# Altium integrated library Silicon Labs Clocks and Oscillators.IntLib: 678 symbols (part 41 of 45)
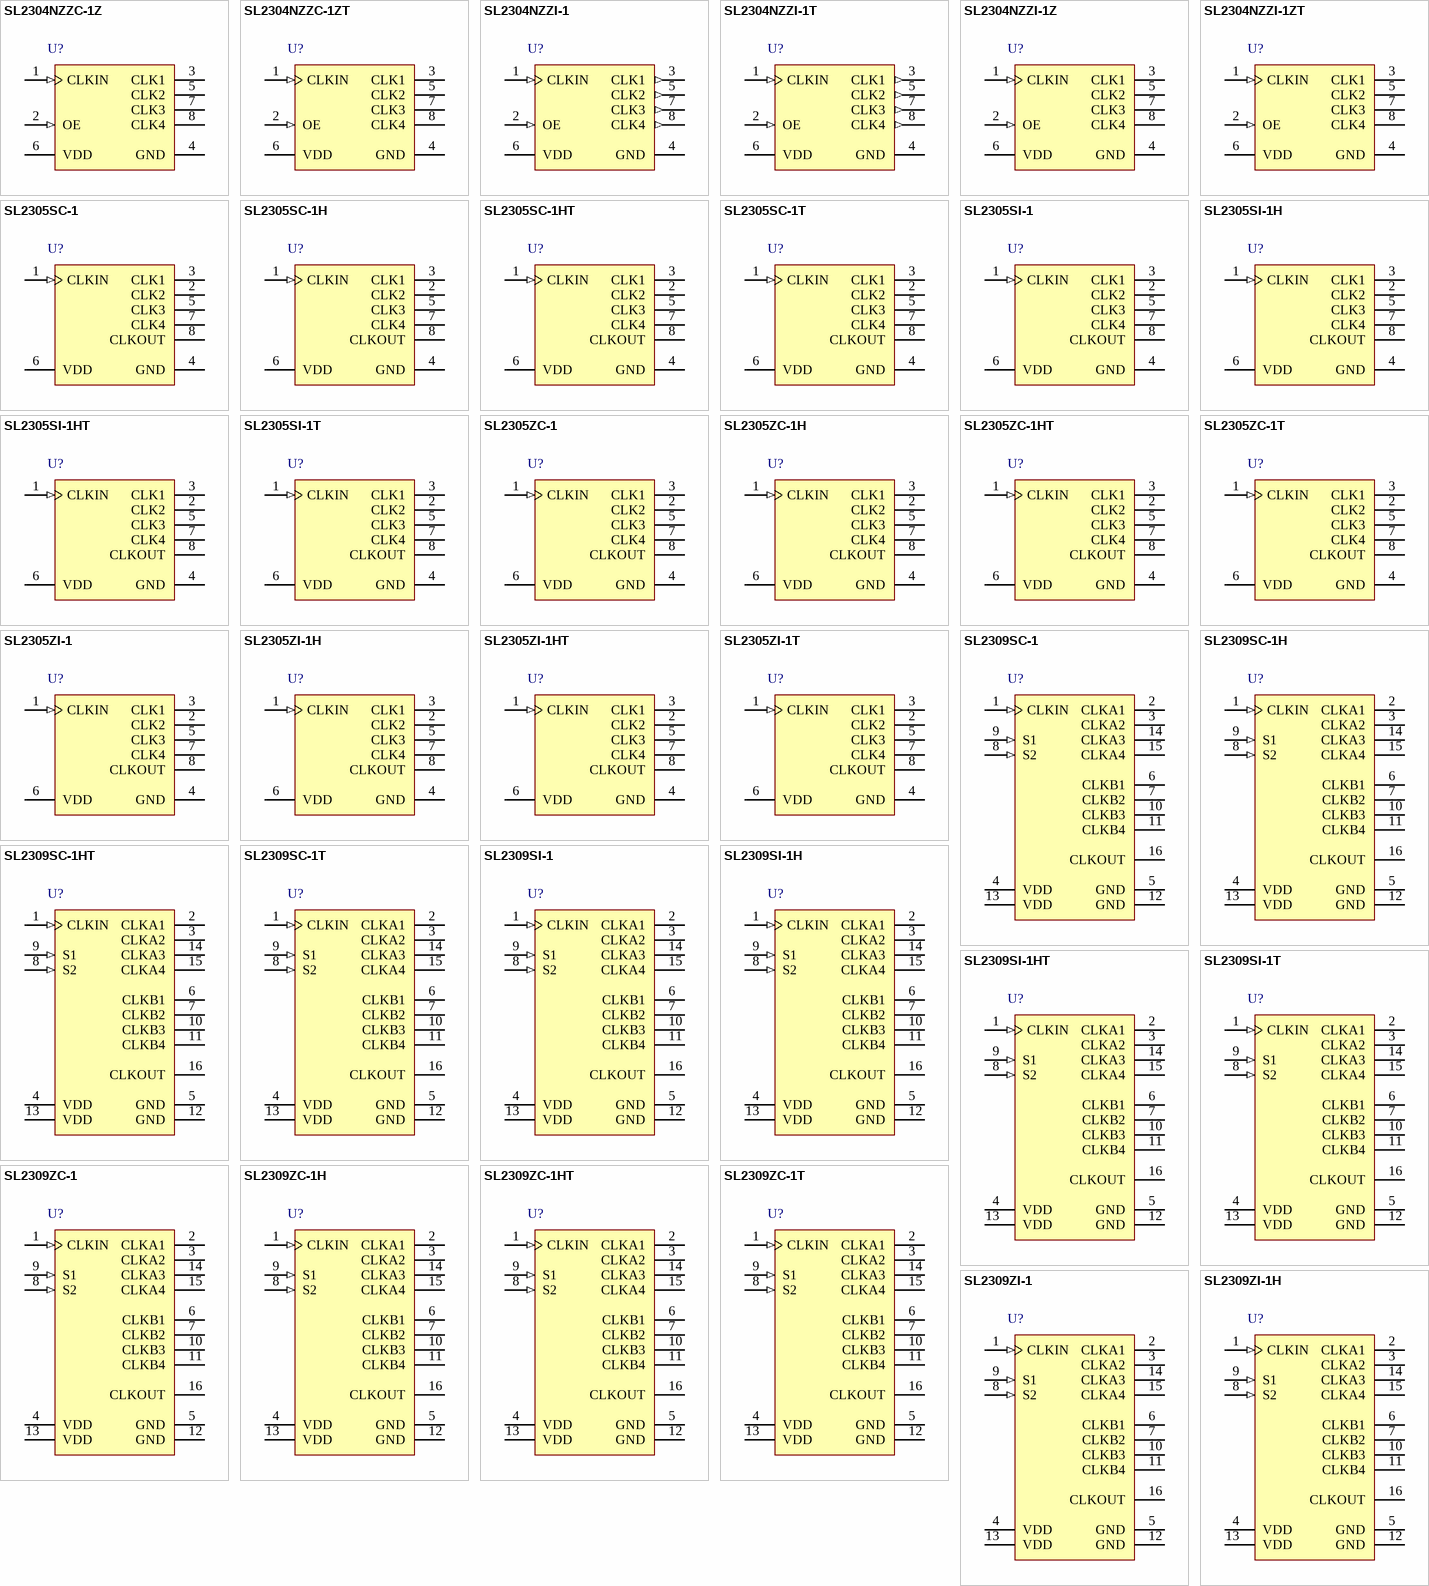
[diagram p84: symbols SL2304NZZC-1Z to SL2309ZI-1H]

## SL2305ZC-1T
designator U?
Low Jitter and Skew Zero Delay Buffer (ZDB), 10 to 140 MHz, 0 to 70 degC, 8-pin SOP, Tape and Reel; Manufacturer: Silicon Labs; PartNumber: SL2305ZC-1T; Output Format: LVCMOS; Sub-Family: Clock Buffers; DatasheetVersion: Rev. 2.1; PackageReference: TSSOP-8; PackageDescription: 8-Pin Thin Shrink Small-Outline Package, Body 4.4 x 3 mm, Pitch 0.65 mm; Supplier 1: Digi-Key; Supplier Part Number 1: SL2305ZC-1T-ND; Supplier 2: Mouser; Supplier Part Number 2: 634-SL2305ZC-1T; Frequency (MHz): 10 to 140; Packing: Tape and Reel; Mounting Technology: Surface Mount; ComponentLink1Description: Manufacturer URL; ComponentLink1URL: http://www.silabs.com/; ComponentLink2Description: Datasheet; ComponentLink2URL: http://www.silabs.com/Support%20Documents/TechnicalDocs/SL2305.pdf; ComponentLink3Description: Package Specification; ComponentLink3URL: http://www.silabs.com/Support%20Documents/TechnicalDocs/SL2305.pdf
footprint SLAB-TSSOP-8_A_N (SOP, 8-Leads, Body 4.5x3.1mm, Pitch 0.65mm, IPC Medium Density)
footprint SLAB-TSSOP-8_A_L (SOP, 8-Leads, Body 4.5x3.1mm, Pitch 0.65mm, IPC High Density)
footprint SLAB-TSSOP-8_A_M (SOP, 8-Leads, Body 4.5x3.1mm, Pitch 0.65mm, IPC Low Density)
pins: 1 CLKIN (in) "Reference Frequency Clock Input. Weak pull-down.", 2 CLK2 (hiz) "Buffered Clock Output Weak pull-down.", 3 CLK1 (hiz) "Buffered Clock Output. Weak pull-down.", 4 GND (power) "Power Ground.", 5 CLK3 (hiz) "Buffered Clock Output. Weak pull-down.", 6 VDD (power), 7 CLK4 (hiz) "Buffered Clock Output. Weak pull-down.", 8 CLKOUT (hiz) "Buffered Clock Output, Used for Internal Feedback to PLL Input. Weak pull-down."

## SL2305ZI-1
designator U?
Low Jitter and Skew Zero Delay Buffer (ZDB), 10 to 140 MHz, -40 to 85 degC, 8-pin SOP, Tube; Manufacturer: Silicon Labs; PartNumber: SL2305ZI-1; Output Format: LVCMOS; Sub-Family: Clock Buffers; DatasheetVersion: Rev. 2.1; PackageReference: TSSOP-8; PackageDescription: 8-Pin Thin Shrink Small-Outline Package, Body 4.4 x 3 mm, Pitch 0.65 mm; Supplier 1: Digi-Key; Supplier Part Number 1: SL2305ZI-1-ND; Supplier 2: Mouser; Supplier Part Number 2: 634-SL2305ZI-1; Frequency (MHz): 10 to 140; Packing: Tube; Mounting Technology: Surface Mount; ComponentLink1Description: Manufacturer URL; ComponentLink1URL: http://www.silabs.com/; ComponentLink2Description: Datasheet; ComponentLink2URL: http://www.silabs.com/Support%20Documents/TechnicalDocs/SL2305.pdf; ComponentLink3Description: Package Specification; ComponentLink3URL: http://www.silabs.com/Support%20Documents/TechnicalDocs/SL2305.pdf
footprint SLAB-TSSOP-8_A_N (SOP, 8-Leads, Body 4.5x3.1mm, Pitch 0.65mm, IPC Medium Density)
footprint SLAB-TSSOP-8_A_L (SOP, 8-Leads, Body 4.5x3.1mm, Pitch 0.65mm, IPC High Density)
footprint SLAB-TSSOP-8_A_M (SOP, 8-Leads, Body 4.5x3.1mm, Pitch 0.65mm, IPC Low Density)
pins: 1 CLKIN (in) "Reference Frequency Clock Input. Weak pull-down.", 2 CLK2 (hiz) "Buffered Clock Output Weak pull-down.", 3 CLK1 (hiz) "Buffered Clock Output. Weak pull-down.", 4 GND (power) "Power Ground.", 5 CLK3 (hiz) "Buffered Clock Output. Weak pull-down.", 6 VDD (power), 7 CLK4 (hiz) "Buffered Clock Output. Weak pull-down.", 8 CLKOUT (hiz) "Buffered Clock Output, Used for Internal Feedback to PLL Input. Weak pull-down."

## SL2305ZI-1H
designator U?
Low Jitter and Skew Zero Delay Buffer (ZDB), 10 to 140 MHz, -40 to 85 degC, 8-pin SOP, Tube; Manufacturer: Silicon Labs; PartNumber: SL2305ZI-1H; Output Format: LVCMOS; Sub-Family: Clock Buffers; DatasheetVersion: Rev. 2.1; PackageReference: TSSOP-8; PackageDescription: 8-Pin Thin Shrink Small-Outline Package, Body 4.4 x 3 mm, Pitch 0.65 mm; Supplier 1: Digi-Key; Supplier Part Number 1: SL2305ZI-1H-ND; Supplier 2: Mouser; Supplier Part Number 2: 634-SL2305ZI-1H; Frequency (MHz): 10 to 140; Packing: Tube; Mounting Technology: Surface Mount; ComponentLink1Description: Manufacturer URL; ComponentLink1URL: http://www.silabs.com/; ComponentLink2Description: Datasheet; ComponentLink2URL: http://www.silabs.com/Support%20Documents/TechnicalDocs/SL2305.pdf; ComponentLink3Description: Package Specification; ComponentLink3URL: http://www.silabs.com/Support%20Documents/TechnicalDocs/SL2305.pdf
footprint SLAB-TSSOP-8_A_N (SOP, 8-Leads, Body 4.5x3.1mm, Pitch 0.65mm, IPC Medium Density)
footprint SLAB-TSSOP-8_A_L (SOP, 8-Leads, Body 4.5x3.1mm, Pitch 0.65mm, IPC High Density)
footprint SLAB-TSSOP-8_A_M (SOP, 8-Leads, Body 4.5x3.1mm, Pitch 0.65mm, IPC Low Density)
pins: 1 CLKIN (in) "Reference Frequency Clock Input. Weak pull-down.", 2 CLK2 (hiz) "Buffered Clock Output Weak pull-down.", 3 CLK1 (hiz) "Buffered Clock Output. Weak pull-down.", 4 GND (power) "Power Ground.", 5 CLK3 (hiz) "Buffered Clock Output. Weak pull-down.", 6 VDD (power), 7 CLK4 (hiz) "Buffered Clock Output. Weak pull-down.", 8 CLKOUT (hiz) "Buffered Clock Output, Used for Internal Feedback to PLL Input. Weak pull-down."

## SL2305ZI-1HT
designator U?
Low Jitter and Skew Zero Delay Buffer (ZDB), 10 to 140 MHz, -40 to 85 degC, 8-pin SOP, Tape and Reel; Manufacturer: Silicon Labs; PartNumber: SL2305ZI-1HT; Output Format: LVCMOS; Sub-Family: Clock Buffers; DatasheetVersion: Rev. 2.1; PackageReference: TSSOP-8; PackageDescription: 8-Pin Thin Shrink Small-Outline Package, Body 4.4 x 3 mm, Pitch 0.65 mm; Supplier 1: Digi-Key; Supplier Part Number 1: SL2305ZI-1HT-ND; Supplier 2: Mouser; Supplier Part Number 2: 634-SL2305ZI-1HT; Frequency (MHz): 10 to 140; Packing: Tape and Reel; Mounting Technology: Surface Mount; ComponentLink1Description: Manufacturer URL; ComponentLink1URL: http://www.silabs.com/; ComponentLink2Description: Datasheet; ComponentLink2URL: http://www.silabs.com/Support%20Documents/TechnicalDocs/SL2305.pdf; ComponentLink3Description: Package Specification; ComponentLink3URL: http://www.silabs.com/Support%20Documents/TechnicalDocs/SL2305.pdf
footprint SLAB-TSSOP-8_A_N (SOP, 8-Leads, Body 4.5x3.1mm, Pitch 0.65mm, IPC Medium Density)
footprint SLAB-TSSOP-8_A_L (SOP, 8-Leads, Body 4.5x3.1mm, Pitch 0.65mm, IPC High Density)
footprint SLAB-TSSOP-8_A_M (SOP, 8-Leads, Body 4.5x3.1mm, Pitch 0.65mm, IPC Low Density)
pins: 1 CLKIN (in) "Reference Frequency Clock Input. Weak pull-down.", 2 CLK2 (hiz) "Buffered Clock Output Weak pull-down.", 3 CLK1 (hiz) "Buffered Clock Output. Weak pull-down.", 4 GND (power) "Power Ground.", 5 CLK3 (hiz) "Buffered Clock Output. Weak pull-down.", 6 VDD (power), 7 CLK4 (hiz) "Buffered Clock Output. Weak pull-down.", 8 CLKOUT (hiz) "Buffered Clock Output, Used for Internal Feedback to PLL Input. Weak pull-down."

## SL2305ZI-1T
designator U?
Low Jitter and Skew Zero Delay Buffer (ZDB), 10 to 140 MHz, -40 to 85 degC, 8-pin SOP, Tape and Reel; Manufacturer: Silicon Labs; PartNumber: SL2305ZI-1T; Output Format: LVCMOS; Sub-Family: Clock Buffers; DatasheetVersion: Rev. 2.1; PackageReference: TSSOP-8; PackageDescription: 8-Pin Thin Shrink Small-Outline Package, Body 4.4 x 3 mm, Pitch 0.65 mm; Supplier 1: Digi-Key; Supplier Part Number 1: SL2305ZI-1T-ND; Supplier 2: Mouser; Supplier Part Number 2: 634-SL2305ZI-1T; Frequency (MHz): 10 to 140; Packing: Tape and Reel; Mounting Technology: Surface Mount; ComponentLink1Description: Manufacturer URL; ComponentLink1URL: http://www.silabs.com/; ComponentLink2Description: Datasheet; ComponentLink2URL: http://www.silabs.com/Support%20Documents/TechnicalDocs/SL2305.pdf; ComponentLink3Description: Package Specification; ComponentLink3URL: http://www.silabs.com/Support%20Documents/TechnicalDocs/SL2305.pdf
footprint SLAB-TSSOP-8_A_N (SOP, 8-Leads, Body 4.5x3.1mm, Pitch 0.65mm, IPC Medium Density)
footprint SLAB-TSSOP-8_A_L (SOP, 8-Leads, Body 4.5x3.1mm, Pitch 0.65mm, IPC High Density)
footprint SLAB-TSSOP-8_A_M (SOP, 8-Leads, Body 4.5x3.1mm, Pitch 0.65mm, IPC Low Density)
pins: 1 CLKIN (in) "Reference Frequency Clock Input. Weak pull-down.", 2 CLK2 (hiz) "Buffered Clock Output Weak pull-down.", 3 CLK1 (hiz) "Buffered Clock Output. Weak pull-down.", 4 GND (power) "Power Ground.", 5 CLK3 (hiz) "Buffered Clock Output. Weak pull-down.", 6 VDD (power), 7 CLK4 (hiz) "Buffered Clock Output. Weak pull-down.", 8 CLKOUT (hiz) "Buffered Clock Output, Used for Internal Feedback to PLL Input. Weak pull-down."

## SL2309SC-1
designator U?
Low Jitter and Skew Zero Delay Buffer (ZDB), 10 to 140 MHz, 0 to 70 degC, 16-pin SOIC, Tube; Manufacturer: Silicon Labs; PartNumber: SL2309SC-1; Output Format: LVCMOS; Sub-Family: Clock Buffers; DatasheetVersion: Rev. 1.3; PackageReference: SOIC-16; PackageDescription: 16-Pin Small-Outline Integrated Circuit, Body 9.9 x 3.9 mm, Pitch 1.27 mm; Supplier 1: Digi-Key; Supplier Part Number 1: SL2309SC-1-ND; Supplier 2: Mouser; Supplier Part Number 2: 634-SL2309SC-1; Frequency (MHz): 10 to 140; Packing: Tube; Mounting Technology: Surface Mount; ComponentLink1Description: Manufacturer URL; ComponentLink1URL: http://www.silabs.com/; ComponentLink2Description: Datasheet; ComponentLink2URL: http://www.silabs.com/Support%20Documents/TechnicalDocs/SL2309.pdf; ComponentLink3Description: Package Specification; ComponentLink3URL: http://www.silabs.com/Support%20Documents/TechnicalDocs/SL2309.pdf
footprint SLAB-SOIC-16_N (SOIC, 16-Leads, Body 10x4mm, Pitch 1.27mm, IPC Medium Density)
footprint SLAB-SOIC-16_L (SOIC, 16-Leads, Body 10x4mm, Pitch 1.27mm, IPC High Density)
footprint SLAB-SOIC-16_M (SOIC, 16-Leads, Body 10x4mm, Pitch 1.27mm, IPC Low Density)
pins: 1 CLKIN (in) "Reference Frequency Clock Input. Weak pull-down (250kohm).", 2 CLKA1 (hiz) "Buffered Clock Output, Bank A. Weak pull-down (250kohm).", 3 CLKA2 (hiz) "Buffered Clock Output, Bank A. Weak pull-down (250kohm).", 4 VDD (power), 5 GND (power) "Power Ground.", 6 CLKB1 (hiz) "Buffered Clock Output, Bank B. Weak pull-down (250kohm).", 7 CLKB2 (hiz) "Buffered Clock Output, Bank B. Weak pull-down (250kohm).", 8 S2 (in) "Select Input, select pin S2. Weak pull-up (250kohm).", 9 S1 (in) "Select Input, select pin S1. Weak pull-up (250kohm).", 10 CLKB3 (hiz) "Buffered Clock Output, Bank B. Weak pull-down (250kohm).", 11 CLKB4 (hiz) "Buffered Clock Output, Bank B. Weak pull-down (250kohm).", 12 GND (power) "Power Ground.", 13 VDD (power), 14 CLKA3 (hiz) "Buffered Clock Output, Bank A. Weak pull-down (250kohm).", 15 CLKA4 (hiz) "Buffered Clock Output, Bank A. Weak pull-down (250kohm).", 16 CLKOUT (hiz) "Buffered Clock Output, PLL Internal Feedback Output. Weak pull-down (250kohm)."

## SL2309SC-1H
designator U?
Low Jitter and Skew Zero Delay Buffer (ZDB), 10 to 140 MHz, 0 to 70 degC, 16-pin SOIC, Tube; Manufacturer: Silicon Labs; PartNumber: SL2309SC-1H; Output Format: LVCMOS; Sub-Family: Clock Buffers; DatasheetVersion: Rev. 1.3; PackageReference: SOIC-16; PackageDescription: 16-Pin Small-Outline Integrated Circuit, Body 9.9 x 3.9 mm, Pitch 1.27 mm; Supplier 1: Digi-Key; Supplier Part Number 1: SL2309SC-1H-ND; Supplier 2: Mouser; Supplier Part Number 2: 634-SL2309SC-1H; Frequency (MHz): 10 to 140; Packing: Tube; Mounting Technology: Surface Mount; ComponentLink1Description: Manufacturer URL; ComponentLink1URL: http://www.silabs.com/; ComponentLink2Description: Datasheet; ComponentLink2URL: http://www.silabs.com/Support%20Documents/TechnicalDocs/SL2309.pdf; ComponentLink3Description: Package Specification; ComponentLink3URL: http://www.silabs.com/Support%20Documents/TechnicalDocs/SL2309.pdf
footprint SLAB-SOIC-16_N (SOIC, 16-Leads, Body 10x4mm, Pitch 1.27mm, IPC Medium Density)
footprint SLAB-SOIC-16_L (SOIC, 16-Leads, Body 10x4mm, Pitch 1.27mm, IPC High Density)
footprint SLAB-SOIC-16_M (SOIC, 16-Leads, Body 10x4mm, Pitch 1.27mm, IPC Low Density)
pins: 1 CLKIN (in) "Reference Frequency Clock Input. Weak pull-down (250kohm).", 2 CLKA1 (hiz) "Buffered Clock Output, Bank A. Weak pull-down (250kohm).", 3 CLKA2 (hiz) "Buffered Clock Output, Bank A. Weak pull-down (250kohm).", 4 VDD (power), 5 GND (power) "Power Ground.", 6 CLKB1 (hiz) "Buffered Clock Output, Bank B. Weak pull-down (250kohm).", 7 CLKB2 (hiz) "Buffered Clock Output, Bank B. Weak pull-down (250kohm).", 8 S2 (in) "Select Input, select pin S2. Weak pull-up (250kohm).", 9 S1 (in) "Select Input, select pin S1. Weak pull-up (250kohm).", 10 CLKB3 (hiz) "Buffered Clock Output, Bank B. Weak pull-down (250kohm).", 11 CLKB4 (hiz) "Buffered Clock Output, Bank B. Weak pull-down (250kohm).", 12 GND (power) "Power Ground.", 13 VDD (power), 14 CLKA3 (hiz) "Buffered Clock Output, Bank A. Weak pull-down (250kohm).", 15 CLKA4 (hiz) "Buffered Clock Output, Bank A. Weak pull-down (250kohm).", 16 CLKOUT (hiz) "Buffered Clock Output, PLL Internal Feedback Output. Weak pull-down (250kohm)."

## SL2309SC-1HT
designator U?
Low Jitter and Skew Zero Delay Buffer (ZDB), 10 to 140 MHz, 0 to 70 degC, 16-pin SOIC, Tape and Reel; Manufacturer: Silicon Labs; PartNumber: SL2309SC-1HT; Output Format: LVCMOS; Sub-Family: Clock Buffers; DatasheetVersion: Rev. 1.3; PackageReference: SOIC-16; PackageDescription: 16-Pin Small-Outline Integrated Circuit, Body 9.9 x 3.9 mm, Pitch 1.27 mm; Supplier 1: Digi-Key; Supplier Part Number 1: SL2309SC-1HT-ND; Supplier 2: Mouser; Supplier Part Number 2: 634-SL2309SC-1HT; Frequency (MHz): 10 to 140; Packing: Tape and Reel; Mounting Technology: Surface Mount; ComponentLink1Description: Manufacturer URL; ComponentLink1URL: http://www.silabs.com/; ComponentLink2Description: Datasheet; ComponentLink2URL: http://www.silabs.com/Support%20Documents/TechnicalDocs/SL2309.pdf; ComponentLink3Description: Package Specification; ComponentLink3URL: http://www.silabs.com/Support%20Documents/TechnicalDocs/SL2309.pdf
footprint SLAB-SOIC-16_N (SOIC, 16-Leads, Body 10x4mm, Pitch 1.27mm, IPC Medium Density)
footprint SLAB-SOIC-16_L (SOIC, 16-Leads, Body 10x4mm, Pitch 1.27mm, IPC High Density)
footprint SLAB-SOIC-16_M (SOIC, 16-Leads, Body 10x4mm, Pitch 1.27mm, IPC Low Density)
pins: 1 CLKIN (in) "Reference Frequency Clock Input. Weak pull-down (250kohm).", 2 CLKA1 (hiz) "Buffered Clock Output, Bank A. Weak pull-down (250kohm).", 3 CLKA2 (hiz) "Buffered Clock Output, Bank A. Weak pull-down (250kohm).", 4 VDD (power), 5 GND (power) "Power Ground.", 6 CLKB1 (hiz) "Buffered Clock Output, Bank B. Weak pull-down (250kohm).", 7 CLKB2 (hiz) "Buffered Clock Output, Bank B. Weak pull-down (250kohm).", 8 S2 (in) "Select Input, select pin S2. Weak pull-up (250kohm).", 9 S1 (in) "Select Input, select pin S1. Weak pull-up (250kohm).", 10 CLKB3 (hiz) "Buffered Clock Output, Bank B. Weak pull-down (250kohm).", 11 CLKB4 (hiz) "Buffered Clock Output, Bank B. Weak pull-down (250kohm).", 12 GND (power) "Power Ground.", 13 VDD (power), 14 CLKA3 (hiz) "Buffered Clock Output, Bank A. Weak pull-down (250kohm).", 15 CLKA4 (hiz) "Buffered Clock Output, Bank A. Weak pull-down (250kohm).", 16 CLKOUT (hiz) "Buffered Clock Output, PLL Internal Feedback Output. Weak pull-down (250kohm)."

## SL2309SC-1T
designator U?
Low Jitter and Skew Zero Delay Buffer (ZDB), 10 to 140 MHz, 0 to 70 degC, 16-pin SOIC, Tape and Reel; Manufacturer: Silicon Labs; PartNumber: SL2309SC-1T; Output Format: LVCMOS; Sub-Family: Clock Buffers; DatasheetVersion: Rev. 1.3; PackageReference: SOIC-16; PackageDescription: 16-Pin Small-Outline Integrated Circuit, Body 9.9 x 3.9 mm, Pitch 1.27 mm; Supplier 1: Digi-Key; Supplier Part Number 1: SL2309SC-1T-ND; Supplier 2: Mouser; Supplier Part Number 2: 634-SL2309SC-1T; Frequency (MHz): 10 to 140; Packing: Tape and Reel; Mounting Technology: Surface Mount; ComponentLink1Description: Manufacturer URL; ComponentLink1URL: http://www.silabs.com/; ComponentLink2Description: Datasheet; ComponentLink2URL: http://www.silabs.com/Support%20Documents/TechnicalDocs/SL2309.pdf; ComponentLink3Description: Package Specification; ComponentLink3URL: http://www.silabs.com/Support%20Documents/TechnicalDocs/SL2309.pdf
footprint SLAB-SOIC-16_N (SOIC, 16-Leads, Body 10x4mm, Pitch 1.27mm, IPC Medium Density)
footprint SLAB-SOIC-16_L (SOIC, 16-Leads, Body 10x4mm, Pitch 1.27mm, IPC High Density)
footprint SLAB-SOIC-16_M (SOIC, 16-Leads, Body 10x4mm, Pitch 1.27mm, IPC Low Density)
pins: 1 CLKIN (in) "Reference Frequency Clock Input. Weak pull-down (250kohm).", 2 CLKA1 (hiz) "Buffered Clock Output, Bank A. Weak pull-down (250kohm).", 3 CLKA2 (hiz) "Buffered Clock Output, Bank A. Weak pull-down (250kohm).", 4 VDD (power), 5 GND (power) "Power Ground.", 6 CLKB1 (hiz) "Buffered Clock Output, Bank B. Weak pull-down (250kohm).", 7 CLKB2 (hiz) "Buffered Clock Output, Bank B. Weak pull-down (250kohm).", 8 S2 (in) "Select Input, select pin S2. Weak pull-up (250kohm).", 9 S1 (in) "Select Input, select pin S1. Weak pull-up (250kohm).", 10 CLKB3 (hiz) "Buffered Clock Output, Bank B. Weak pull-down (250kohm).", 11 CLKB4 (hiz) "Buffered Clock Output, Bank B. Weak pull-down (250kohm).", 12 GND (power) "Power Ground.", 13 VDD (power), 14 CLKA3 (hiz) "Buffered Clock Output, Bank A. Weak pull-down (250kohm).", 15 CLKA4 (hiz) "Buffered Clock Output, Bank A. Weak pull-down (250kohm).", 16 CLKOUT (hiz) "Buffered Clock Output, PLL Internal Feedback Output. Weak pull-down (250kohm)."

## SL2309SI-1
designator U?
Low Jitter and Skew Zero Delay Buffer (ZDB), 10 to 140 MHz, -40 to 85 degC, 16-pin SOIC, Tube; Manufacturer: Silicon Labs; PartNumber: SL2309SI-1; Output Format: LVCMOS; Sub-Family: Clock Buffers; DatasheetVersion: Rev. 1.3; PackageReference: SOIC-16; PackageDescription: 16-Pin Small-Outline Integrated Circuit, Body 9.9 x 3.9 mm, Pitch 1.27 mm; Supplier 1: Digi-Key; Supplier Part Number 1: SL2309SI-1-ND; Supplier 2: Mouser; Supplier Part Number 2: 634-SL2309SI-1; Frequency (MHz): 10 to 140; Packing: Tube; Mounting Technology: Surface Mount; ComponentLink1Description: Manufacturer URL; ComponentLink1URL: http://www.silabs.com/; ComponentLink2Description: Datasheet; ComponentLink2URL: http://www.silabs.com/Support%20Documents/TechnicalDocs/SL2309.pdf; ComponentLink3Description: Package Specification; ComponentLink3URL: http://www.silabs.com/Support%20Documents/TechnicalDocs/SL2309.pdf
footprint SLAB-SOIC-16_N (SOIC, 16-Leads, Body 10x4mm, Pitch 1.27mm, IPC Medium Density)
footprint SLAB-SOIC-16_L (SOIC, 16-Leads, Body 10x4mm, Pitch 1.27mm, IPC High Density)
footprint SLAB-SOIC-16_M (SOIC, 16-Leads, Body 10x4mm, Pitch 1.27mm, IPC Low Density)
pins: 1 CLKIN (in) "Reference Frequency Clock Input. Weak pull-down (250kohm).", 2 CLKA1 (hiz) "Buffered Clock Output, Bank A. Weak pull-down (250kohm).", 3 CLKA2 (hiz) "Buffered Clock Output, Bank A. Weak pull-down (250kohm).", 4 VDD (power), 5 GND (power) "Power Ground.", 6 CLKB1 (hiz) "Buffered Clock Output, Bank B. Weak pull-down (250kohm).", 7 CLKB2 (hiz) "Buffered Clock Output, Bank B. Weak pull-down (250kohm).", 8 S2 (in) "Select Input, select pin S2. Weak pull-up (250kohm).", 9 S1 (in) "Select Input, select pin S1. Weak pull-up (250kohm).", 10 CLKB3 (hiz) "Buffered Clock Output, Bank B. Weak pull-down (250kohm).", 11 CLKB4 (hiz) "Buffered Clock Output, Bank B. Weak pull-down (250kohm).", 12 GND (power) "Power Ground.", 13 VDD (power), 14 CLKA3 (hiz) "Buffered Clock Output, Bank A. Weak pull-down (250kohm).", 15 CLKA4 (hiz) "Buffered Clock Output, Bank A. Weak pull-down (250kohm).", 16 CLKOUT (hiz) "Buffered Clock Output, PLL Internal Feedback Output. Weak pull-down (250kohm)."

## SL2309SI-1H
designator U?
Low Jitter and Skew Zero Delay Buffer (ZDB), 10 to 140 MHz, -40 to 85 degC, 16-pin SOIC, Tube; Manufacturer: Silicon Labs; PartNumber: SL2309SI-1H; Output Format: LVCMOS; Sub-Family: Clock Buffers; DatasheetVersion: Rev. 1.3; PackageReference: SOIC-16; PackageDescription: 16-Pin Small-Outline Integrated Circuit, Body 9.9 x 3.9 mm, Pitch 1.27 mm; Supplier 1: Digi-Key; Supplier Part Number 1: SL2309SI-1H-ND; Supplier 2: Mouser; Supplier Part Number 2: 634-SL2309SI-1H; Frequency (MHz): 10 to 140; Packing: Tube; Mounting Technology: Surface Mount; ComponentLink1Description: Manufacturer URL; ComponentLink1URL: http://www.silabs.com/; ComponentLink2Description: Datasheet; ComponentLink2URL: http://www.silabs.com/Support%20Documents/TechnicalDocs/SL2309.pdf; ComponentLink3Description: Package Specification; ComponentLink3URL: http://www.silabs.com/Support%20Documents/TechnicalDocs/SL2309.pdf
footprint SLAB-SOIC-16_N (SOIC, 16-Leads, Body 10x4mm, Pitch 1.27mm, IPC Medium Density)
footprint SLAB-SOIC-16_L (SOIC, 16-Leads, Body 10x4mm, Pitch 1.27mm, IPC High Density)
footprint SLAB-SOIC-16_M (SOIC, 16-Leads, Body 10x4mm, Pitch 1.27mm, IPC Low Density)
pins: 1 CLKIN (in) "Reference Frequency Clock Input. Weak pull-down (250kohm).", 2 CLKA1 (hiz) "Buffered Clock Output, Bank A. Weak pull-down (250kohm).", 3 CLKA2 (hiz) "Buffered Clock Output, Bank A. Weak pull-down (250kohm).", 4 VDD (power), 5 GND (power) "Power Ground.", 6 CLKB1 (hiz) "Buffered Clock Output, Bank B. Weak pull-down (250kohm).", 7 CLKB2 (hiz) "Buffered Clock Output, Bank B. Weak pull-down (250kohm).", 8 S2 (in) "Select Input, select pin S2. Weak pull-up (250kohm).", 9 S1 (in) "Select Input, select pin S1. Weak pull-up (250kohm).", 10 CLKB3 (hiz) "Buffered Clock Output, Bank B. Weak pull-down (250kohm).", 11 CLKB4 (hiz) "Buffered Clock Output, Bank B. Weak pull-down (250kohm).", 12 GND (power) "Power Ground.", 13 VDD (power), 14 CLKA3 (hiz) "Buffered Clock Output, Bank A. Weak pull-down (250kohm).", 15 CLKA4 (hiz) "Buffered Clock Output, Bank A. Weak pull-down (250kohm).", 16 CLKOUT (hiz) "Buffered Clock Output, PLL Internal Feedback Output. Weak pull-down (250kohm)."

## SL2309SI-1HT
designator U?
Low Jitter and Skew Zero Delay Buffer (ZDB), 10 to 140 MHz, -40 to 85 degC, 16-pin SOIC, Tape and Reel; Manufacturer: Silicon Labs; PartNumber: SL2309SI-1HT; Output Format: LVCMOS; Sub-Family: Clock Buffers; DatasheetVersion: Rev. 1.3; PackageReference: SOIC-16; PackageDescription: 16-Pin Small-Outline Integrated Circuit, Body 9.9 x 3.9 mm, Pitch 1.27 mm; Supplier 1: Digi-Key; Supplier Part Number 1: SL2309SI-1HT-ND; Supplier 2: Mouser; Supplier Part Number 2: 634-SL2309SI-1HT; Frequency (MHz): 10 to 140; Packing: Tape and Reel; Mounting Technology: Surface Mount; ComponentLink1Description: Manufacturer URL; ComponentLink1URL: http://www.silabs.com/; ComponentLink2Description: Datasheet; ComponentLink2URL: http://www.silabs.com/Support%20Documents/TechnicalDocs/SL2309.pdf; ComponentLink3Description: Package Specification; ComponentLink3URL: http://www.silabs.com/Support%20Documents/TechnicalDocs/SL2309.pdf
footprint SLAB-SOIC-16_N (SOIC, 16-Leads, Body 10x4mm, Pitch 1.27mm, IPC Medium Density)
footprint SLAB-SOIC-16_L (SOIC, 16-Leads, Body 10x4mm, Pitch 1.27mm, IPC High Density)
footprint SLAB-SOIC-16_M (SOIC, 16-Leads, Body 10x4mm, Pitch 1.27mm, IPC Low Density)
pins: 1 CLKIN (in) "Reference Frequency Clock Input. Weak pull-down (250kohm).", 2 CLKA1 (hiz) "Buffered Clock Output, Bank A. Weak pull-down (250kohm).", 3 CLKA2 (hiz) "Buffered Clock Output, Bank A. Weak pull-down (250kohm).", 4 VDD (power), 5 GND (power) "Power Ground.", 6 CLKB1 (hiz) "Buffered Clock Output, Bank B. Weak pull-down (250kohm).", 7 CLKB2 (hiz) "Buffered Clock Output, Bank B. Weak pull-down (250kohm).", 8 S2 (in) "Select Input, select pin S2. Weak pull-up (250kohm).", 9 S1 (in) "Select Input, select pin S1. Weak pull-up (250kohm).", 10 CLKB3 (hiz) "Buffered Clock Output, Bank B. Weak pull-down (250kohm).", 11 CLKB4 (hiz) "Buffered Clock Output, Bank B. Weak pull-down (250kohm).", 12 GND (power) "Power Ground.", 13 VDD (power), 14 CLKA3 (hiz) "Buffered Clock Output, Bank A. Weak pull-down (250kohm).", 15 CLKA4 (hiz) "Buffered Clock Output, Bank A. Weak pull-down (250kohm).", 16 CLKOUT (hiz) "Buffered Clock Output, PLL Internal Feedback Output. Weak pull-down (250kohm)."

## SL2309SI-1T
designator U?
Low Jitter and Skew Zero Delay Buffer (ZDB), 10 to 140 MHz, -40 to 85 degC, 16-pin SOIC, Tape and Reel; Manufacturer: Silicon Labs; PartNumber: SL2309SI-1T; Output Format: LVCMOS; Sub-Family: Clock Buffers; DatasheetVersion: Rev. 1.3; PackageReference: SOIC-16; PackageDescription: 16-Pin Small-Outline Integrated Circuit, Body 9.9 x 3.9 mm, Pitch 1.27 mm; Supplier 1: Digi-Key; Supplier Part Number 1: SL2309SI-1T-ND; Supplier 2: Mouser; Supplier Part Number 2: 634-SL2309SI-1T; Frequency (MHz): 10 to 140; Packing: Tape and Reel; Mounting Technology: Surface Mount; ComponentLink1Description: Manufacturer URL; ComponentLink1URL: http://www.silabs.com/; ComponentLink2Description: Datasheet; ComponentLink2URL: http://www.silabs.com/Support%20Documents/TechnicalDocs/SL2309.pdf; ComponentLink3Description: Package Specification; ComponentLink3URL: http://www.silabs.com/Support%20Documents/TechnicalDocs/SL2309.pdf
footprint SLAB-SOIC-16_N (SOIC, 16-Leads, Body 10x4mm, Pitch 1.27mm, IPC Medium Density)
footprint SLAB-SOIC-16_L (SOIC, 16-Leads, Body 10x4mm, Pitch 1.27mm, IPC High Density)
footprint SLAB-SOIC-16_M (SOIC, 16-Leads, Body 10x4mm, Pitch 1.27mm, IPC Low Density)
pins: 1 CLKIN (in) "Reference Frequency Clock Input. Weak pull-down (250kohm).", 2 CLKA1 (hiz) "Buffered Clock Output, Bank A. Weak pull-down (250kohm).", 3 CLKA2 (hiz) "Buffered Clock Output, Bank A. Weak pull-down (250kohm).", 4 VDD (power), 5 GND (power) "Power Ground.", 6 CLKB1 (hiz) "Buffered Clock Output, Bank B. Weak pull-down (250kohm).", 7 CLKB2 (hiz) "Buffered Clock Output, Bank B. Weak pull-down (250kohm).", 8 S2 (in) "Select Input, select pin S2. Weak pull-up (250kohm).", 9 S1 (in) "Select Input, select pin S1. Weak pull-up (250kohm).", 10 CLKB3 (hiz) "Buffered Clock Output, Bank B. Weak pull-down (250kohm).", 11 CLKB4 (hiz) "Buffered Clock Output, Bank B. Weak pull-down (250kohm).", 12 GND (power) "Power Ground.", 13 VDD (power), 14 CLKA3 (hiz) "Buffered Clock Output, Bank A. Weak pull-down (250kohm).", 15 CLKA4 (hiz) "Buffered Clock Output, Bank A. Weak pull-down (250kohm).", 16 CLKOUT (hiz) "Buffered Clock Output, PLL Internal Feedback Output. Weak pull-down (250kohm)."

## SL2309ZC-1
designator U?
Low Jitter and Skew Zero Delay Buffer (ZDB), 10 to 140 MHz, 0 to 70 degC, 16-pin SOP, Tube; Manufacturer: Silicon Labs; PartNumber: SL2309ZC-1; Output Format: LVCMOS; Sub-Family: Clock Buffers; DatasheetVersion: Rev. 1.3; PackageReference: TSSOP-16_A; PackageDescription: 16-Pin Thin Shrink Small-Outline Package, Body 5 x 4.4 mm, Pitch 0.65 mm; Supplier 1: Digi-Key; Supplier Part Number 1: SL2309ZC-1-ND; Supplier 2: Mouser; Supplier Part Number 2: 634-SL2309ZC-1; Frequency (MHz): 10 to 140; Packing: Tube; Mounting Technology: Surface Mount; ComponentLink1Description: Manufacturer URL; ComponentLink1URL: http://www.silabs.com/; ComponentLink2Description: Datasheet; ComponentLink2URL: http://www.silabs.com/Support%20Documents/TechnicalDocs/SL2309.pdf; ComponentLink3Description: Package Specification; ComponentLink3URL: http://www.silabs.com/Support%20Documents/TechnicalDocs/SL2309.pdf
footprint SLAB-TSSOP-16_A_N (SOP, 16-Leads, Body 5.1x4.5mm, Pitch 0.65mm, IPC Medium Density)
footprint SLAB-TSSOP-16_A_L (SOP, 16-Leads, Body 5.1x4.5mm, Pitch 0.65mm, IPC High Density)
footprint SLAB-TSSOP-16_A_M (SOP, 16-Leads, Body 5.1x4.5mm, Pitch 0.65mm, IPC Low Density)
pins: 1 CLKIN (in) "Reference Frequency Clock Input. Weak pull-down (250kohm).", 2 CLKA1 (hiz) "Buffered Clock Output, Bank A. Weak pull-down (250kohm).", 3 CLKA2 (hiz) "Buffered Clock Output, Bank A. Weak pull-down (250kohm).", 4 VDD (power), 5 GND (power) "Power Ground.", 6 CLKB1 (hiz) "Buffered Clock Output, Bank B. Weak pull-down (250kohm).", 7 CLKB2 (hiz) "Buffered Clock Output, Bank B. Weak pull-down (250kohm).", 8 S2 (in) "Select Input, select pin S2. Weak pull-up (250kohm).", 9 S1 (in) "Select Input, select pin S1. Weak pull-up (250kohm).", 10 CLKB3 (hiz) "Buffered Clock Output, Bank B. Weak pull-down (250kohm).", 11 CLKB4 (hiz) "Buffered Clock Output, Bank B. Weak pull-down (250kohm).", 12 GND (power) "Power Ground.", 13 VDD (power), 14 CLKA3 (hiz) "Buffered Clock Output, Bank A. Weak pull-down (250kohm).", 15 CLKA4 (hiz) "Buffered Clock Output, Bank A. Weak pull-down (250kohm).", 16 CLKOUT (hiz) "Buffered Clock Output, PLL Internal Feedback Output. Weak pull-down (250kohm)."

## SL2309ZC-1H
designator U?
Low Jitter and Skew Zero Delay Buffer (ZDB), 10 to 140 MHz, 0 to 70 degC, 16-pin SOP, Tube; Manufacturer: Silicon Labs; PartNumber: SL2309ZC-1H; Output Format: LVCMOS; Sub-Family: Clock Buffers; DatasheetVersion: Rev. 1.3; PackageReference: TSSOP-16_A; PackageDescription: 16-Pin Thin Shrink Small-Outline Package, Body 5 x 4.4 mm, Pitch 0.65 mm; Supplier 1: Digi-Key; Supplier Part Number 1: SL2309ZC-1H-ND; Supplier 2: Mouser; Supplier Part Number 2: 634-SL2309ZC-1H; Frequency (MHz): 10 to 140; Packing: Tube; Mounting Technology: Surface Mount; ComponentLink1Description: Manufacturer URL; ComponentLink1URL: http://www.silabs.com/; ComponentLink2Description: Datasheet; ComponentLink2URL: http://www.silabs.com/Support%20Documents/TechnicalDocs/SL2309.pdf; ComponentLink3Description: Package Specification; ComponentLink3URL: http://www.silabs.com/Support%20Documents/TechnicalDocs/SL2309.pdf
footprint SLAB-TSSOP-16_A_N (SOP, 16-Leads, Body 5.1x4.5mm, Pitch 0.65mm, IPC Medium Density)
footprint SLAB-TSSOP-16_A_L (SOP, 16-Leads, Body 5.1x4.5mm, Pitch 0.65mm, IPC High Density)
footprint SLAB-TSSOP-16_A_M (SOP, 16-Leads, Body 5.1x4.5mm, Pitch 0.65mm, IPC Low Density)
pins: 1 CLKIN (in) "Reference Frequency Clock Input. Weak pull-down (250kohm).", 2 CLKA1 (hiz) "Buffered Clock Output, Bank A. Weak pull-down (250kohm).", 3 CLKA2 (hiz) "Buffered Clock Output, Bank A. Weak pull-down (250kohm).", 4 VDD (power), 5 GND (power) "Power Ground.", 6 CLKB1 (hiz) "Buffered Clock Output, Bank B. Weak pull-down (250kohm).", 7 CLKB2 (hiz) "Buffered Clock Output, Bank B. Weak pull-down (250kohm).", 8 S2 (in) "Select Input, select pin S2. Weak pull-up (250kohm).", 9 S1 (in) "Select Input, select pin S1. Weak pull-up (250kohm).", 10 CLKB3 (hiz) "Buffered Clock Output, Bank B. Weak pull-down (250kohm).", 11 CLKB4 (hiz) "Buffered Clock Output, Bank B. Weak pull-down (250kohm).", 12 GND (power) "Power Ground.", 13 VDD (power), 14 CLKA3 (hiz) "Buffered Clock Output, Bank A. Weak pull-down (250kohm).", 15 CLKA4 (hiz) "Buffered Clock Output, Bank A. Weak pull-down (250kohm).", 16 CLKOUT (hiz) "Buffered Clock Output, PLL Internal Feedback Output. Weak pull-down (250kohm)."

## SL2309ZC-1HT
designator U?
Low Jitter and Skew Zero Delay Buffer (ZDB), 10 to 140 MHz, 0 to 70 degC, 16-pin SOP, Tape and Reel; Manufacturer: Silicon Labs; PartNumber: SL2309ZC-1HT; Output Format: LVCMOS; Sub-Family: Clock Buffers; DatasheetVersion: Rev. 1.3; PackageReference: TSSOP-16_A; PackageDescription: 16-Pin Thin Shrink Small-Outline Package, Body 5 x 4.4 mm, Pitch 0.65 mm; Supplier 1: Digi-Key; Supplier Part Number 1: SL2309ZC-1HT-ND; Supplier 2: Mouser; Supplier Part Number 2: 634-SL2309ZC-1HT; Frequency (MHz): 10 to 140; Packing: Tape and Reel; Mounting Technology: Surface Mount; ComponentLink1Description: Manufacturer URL; ComponentLink1URL: http://www.silabs.com/; ComponentLink2Description: Datasheet; ComponentLink2URL: http://www.silabs.com/Support%20Documents/TechnicalDocs/SL2309.pdf; ComponentLink3Description: Package Specification; ComponentLink3URL: http://www.silabs.com/Support%20Documents/TechnicalDocs/SL2309.pdf
footprint SLAB-TSSOP-16_A_N (SOP, 16-Leads, Body 5.1x4.5mm, Pitch 0.65mm, IPC Medium Density)
footprint SLAB-TSSOP-16_A_L (SOP, 16-Leads, Body 5.1x4.5mm, Pitch 0.65mm, IPC High Density)
footprint SLAB-TSSOP-16_A_M (SOP, 16-Leads, Body 5.1x4.5mm, Pitch 0.65mm, IPC Low Density)
pins: 1 CLKIN (in) "Reference Frequency Clock Input. Weak pull-down (250kohm).", 2 CLKA1 (hiz) "Buffered Clock Output, Bank A. Weak pull-down (250kohm).", 3 CLKA2 (hiz) "Buffered Clock Output, Bank A. Weak pull-down (250kohm).", 4 VDD (power), 5 GND (power) "Power Ground.", 6 CLKB1 (hiz) "Buffered Clock Output, Bank B. Weak pull-down (250kohm).", 7 CLKB2 (hiz) "Buffered Clock Output, Bank B. Weak pull-down (250kohm).", 8 S2 (in) "Select Input, select pin S2. Weak pull-up (250kohm).", 9 S1 (in) "Select Input, select pin S1. Weak pull-up (250kohm).", 10 CLKB3 (hiz) "Buffered Clock Output, Bank B. Weak pull-down (250kohm).", 11 CLKB4 (hiz) "Buffered Clock Output, Bank B. Weak pull-down (250kohm).", 12 GND (power) "Power Ground.", 13 VDD (power), 14 CLKA3 (hiz) "Buffered Clock Output, Bank A. Weak pull-down (250kohm).", 15 CLKA4 (hiz) "Buffered Clock Output, Bank A. Weak pull-down (250kohm).", 16 CLKOUT (hiz) "Buffered Clock Output, PLL Internal Feedback Output. Weak pull-down (250kohm)."

## SL2309ZC-1T
designator U?
Low Jitter and Skew Zero Delay Buffer (ZDB), 10 to 140 MHz, 0 to 70 degC, 16-pin SOP, Tape and Reel; Manufacturer: Silicon Labs; PartNumber: SL2309ZC-1T; Output Format: LVCMOS; Sub-Family: Clock Buffers; DatasheetVersion: Rev. 1.3; PackageReference: TSSOP-16_A; PackageDescription: 16-Pin Thin Shrink Small-Outline Package, Body 5 x 4.4 mm, Pitch 0.65 mm; Supplier 1: Digi-Key; Supplier Part Number 1: SL2309ZC-1T-ND; Supplier 2: Mouser; Supplier Part Number 2: 634-SL2309ZC-1T; Frequency (MHz): 10 to 140; Packing: Tape and Reel; Mounting Technology: Surface Mount; ComponentLink1Description: Manufacturer URL; ComponentLink1URL: http://www.silabs.com/; ComponentLink2Description: Datasheet; ComponentLink2URL: http://www.silabs.com/Support%20Documents/TechnicalDocs/SL2309.pdf; ComponentLink3Description: Package Specification; ComponentLink3URL: http://www.silabs.com/Support%20Documents/TechnicalDocs/SL2309.pdf
footprint SLAB-TSSOP-16_A_N (SOP, 16-Leads, Body 5.1x4.5mm, Pitch 0.65mm, IPC Medium Density)
footprint SLAB-TSSOP-16_A_L (SOP, 16-Leads, Body 5.1x4.5mm, Pitch 0.65mm, IPC High Density)
footprint SLAB-TSSOP-16_A_M (SOP, 16-Leads, Body 5.1x4.5mm, Pitch 0.65mm, IPC Low Density)
pins: 1 CLKIN (in) "Reference Frequency Clock Input. Weak pull-down (250kohm).", 2 CLKA1 (hiz) "Buffered Clock Output, Bank A. Weak pull-down (250kohm).", 3 CLKA2 (hiz) "Buffered Clock Output, Bank A. Weak pull-down (250kohm).", 4 VDD (power), 5 GND (power) "Power Ground.", 6 CLKB1 (hiz) "Buffered Clock Output, Bank B. Weak pull-down (250kohm).", 7 CLKB2 (hiz) "Buffered Clock Output, Bank B. Weak pull-down (250kohm).", 8 S2 (in) "Select Input, select pin S2. Weak pull-up (250kohm).", 9 S1 (in) "Select Input, select pin S1. Weak pull-up (250kohm).", 10 CLKB3 (hiz) "Buffered Clock Output, Bank B. Weak pull-down (250kohm).", 11 CLKB4 (hiz) "Buffered Clock Output, Bank B. Weak pull-down (250kohm).", 12 GND (power) "Power Ground.", 13 VDD (power), 14 CLKA3 (hiz) "Buffered Clock Output, Bank A. Weak pull-down (250kohm).", 15 CLKA4 (hiz) "Buffered Clock Output, Bank A. Weak pull-down (250kohm).", 16 CLKOUT (hiz) "Buffered Clock Output, PLL Internal Feedback Output. Weak pull-down (250kohm)."

## SL2309ZI-1
designator U?
Low Jitter and Skew Zero Delay Buffer (ZDB), 10 to 140 MHz, -40 to 85 degC, 16-pin SOP, Tube; Manufacturer: Silicon Labs; PartNumber: SL2309ZI-1; Output Format: LVCMOS; Sub-Family: Clock Buffers; DatasheetVersion: Rev. 1.3; PackageReference: TSSOP-16_A; PackageDescription: 16-Pin Thin Shrink Small-Outline Package, Body 5 x 4.4 mm, Pitch 0.65 mm; Supplier 1: Digi-Key; Supplier Part Number 1: SL2309ZI-1-ND; Supplier 2: Mouser; Supplier Part Number 2: 634-SL2309ZI-1; Frequency (MHz): 10 to 140; Packing: Tube; Mounting Technology: Surface Mount; ComponentLink1Description: Manufacturer URL; ComponentLink1URL: http://www.silabs.com/; ComponentLink2Description: Datasheet; ComponentLink2URL: http://www.silabs.com/Support%20Documents/TechnicalDocs/SL2309.pdf; ComponentLink3Description: Package Specification; ComponentLink3URL: http://www.silabs.com/Support%20Documents/TechnicalDocs/SL2309.pdf
footprint SLAB-TSSOP-16_A_N (SOP, 16-Leads, Body 5.1x4.5mm, Pitch 0.65mm, IPC Medium Density)
footprint SLAB-TSSOP-16_A_L (SOP, 16-Leads, Body 5.1x4.5mm, Pitch 0.65mm, IPC High Density)
footprint SLAB-TSSOP-16_A_M (SOP, 16-Leads, Body 5.1x4.5mm, Pitch 0.65mm, IPC Low Density)
pins: 1 CLKIN (in) "Reference Frequency Clock Input. Weak pull-down (250kohm).", 2 CLKA1 (hiz) "Buffered Clock Output, Bank A. Weak pull-down (250kohm).", 3 CLKA2 (hiz) "Buffered Clock Output, Bank A. Weak pull-down (250kohm).", 4 VDD (power), 5 GND (power) "Power Ground.", 6 CLKB1 (hiz) "Buffered Clock Output, Bank B. Weak pull-down (250kohm).", 7 CLKB2 (hiz) "Buffered Clock Output, Bank B. Weak pull-down (250kohm).", 8 S2 (in) "Select Input, select pin S2. Weak pull-up (250kohm).", 9 S1 (in) "Select Input, select pin S1. Weak pull-up (250kohm).", 10 CLKB3 (hiz) "Buffered Clock Output, Bank B. Weak pull-down (250kohm).", 11 CLKB4 (hiz) "Buffered Clock Output, Bank B. Weak pull-down (250kohm).", 12 GND (power) "Power Ground.", 13 VDD (power), 14 CLKA3 (hiz) "Buffered Clock Output, Bank A. Weak pull-down (250kohm).", 15 CLKA4 (hiz) "Buffered Clock Output, Bank A. Weak pull-down (250kohm).", 16 CLKOUT (hiz) "Buffered Clock Output, PLL Internal Feedback Output. Weak pull-down (250kohm)."

## SL2309ZI-1H
designator U?
Low Jitter and Skew Zero Delay Buffer (ZDB), 10 to 140 MHz, -40 to 85 degC, 16-pin SOP, Tube; Manufacturer: Silicon Labs; PartNumber: SL2309ZI-1H; Output Format: LVCMOS; Sub-Family: Clock Buffers; DatasheetVersion: Rev. 1.3; PackageReference: TSSOP-16_A; PackageDescription: 16-Pin Thin Shrink Small-Outline Package, Body 5 x 4.4 mm, Pitch 0.65 mm; Supplier 1: Digi-Key; Supplier Part Number 1: SL2309ZI-1H-ND; Supplier 2: Mouser; Supplier Part Number 2: 634-SL2309ZI-1H; Frequency (MHz): 10 to 140; Packing: Tube; Mounting Technology: Surface Mount; ComponentLink1Description: Manufacturer URL; ComponentLink1URL: http://www.silabs.com/; ComponentLink2Description: Datasheet; ComponentLink2URL: http://www.silabs.com/Support%20Documents/TechnicalDocs/SL2309.pdf; ComponentLink3Description: Package Specification; ComponentLink3URL: http://www.silabs.com/Support%20Documents/TechnicalDocs/SL2309.pdf
footprint SLAB-TSSOP-16_A_N (SOP, 16-Leads, Body 5.1x4.5mm, Pitch 0.65mm, IPC Medium Density)
footprint SLAB-TSSOP-16_A_L (SOP, 16-Leads, Body 5.1x4.5mm, Pitch 0.65mm, IPC High Density)
footprint SLAB-TSSOP-16_A_M (SOP, 16-Leads, Body 5.1x4.5mm, Pitch 0.65mm, IPC Low Density)
pins: 1 CLKIN (in) "Reference Frequency Clock Input. Weak pull-down (250kohm).", 2 CLKA1 (hiz) "Buffered Clock Output, Bank A. Weak pull-down (250kohm).", 3 CLKA2 (hiz) "Buffered Clock Output, Bank A. Weak pull-down (250kohm).", 4 VDD (power), 5 GND (power) "Power Ground.", 6 CLKB1 (hiz) "Buffered Clock Output, Bank B. Weak pull-down (250kohm).", 7 CLKB2 (hiz) "Buffered Clock Output, Bank B. Weak pull-down (250kohm).", 8 S2 (in) "Select Input, select pin S2. Weak pull-up (250kohm).", 9 S1 (in) "Select Input, select pin S1. Weak pull-up (250kohm).", 10 CLKB3 (hiz) "Buffered Clock Output, Bank B. Weak pull-down (250kohm).", 11 CLKB4 (hiz) "Buffered Clock Output, Bank B. Weak pull-down (250kohm).", 12 GND (power) "Power Ground.", 13 VDD (power), 14 CLKA3 (hiz) "Buffered Clock Output, Bank A. Weak pull-down (250kohm).", 15 CLKA4 (hiz) "Buffered Clock Output, Bank A. Weak pull-down (250kohm).", 16 CLKOUT (hiz) "Buffered Clock Output, PLL Internal Feedback Output. Weak pull-down (250kohm)."

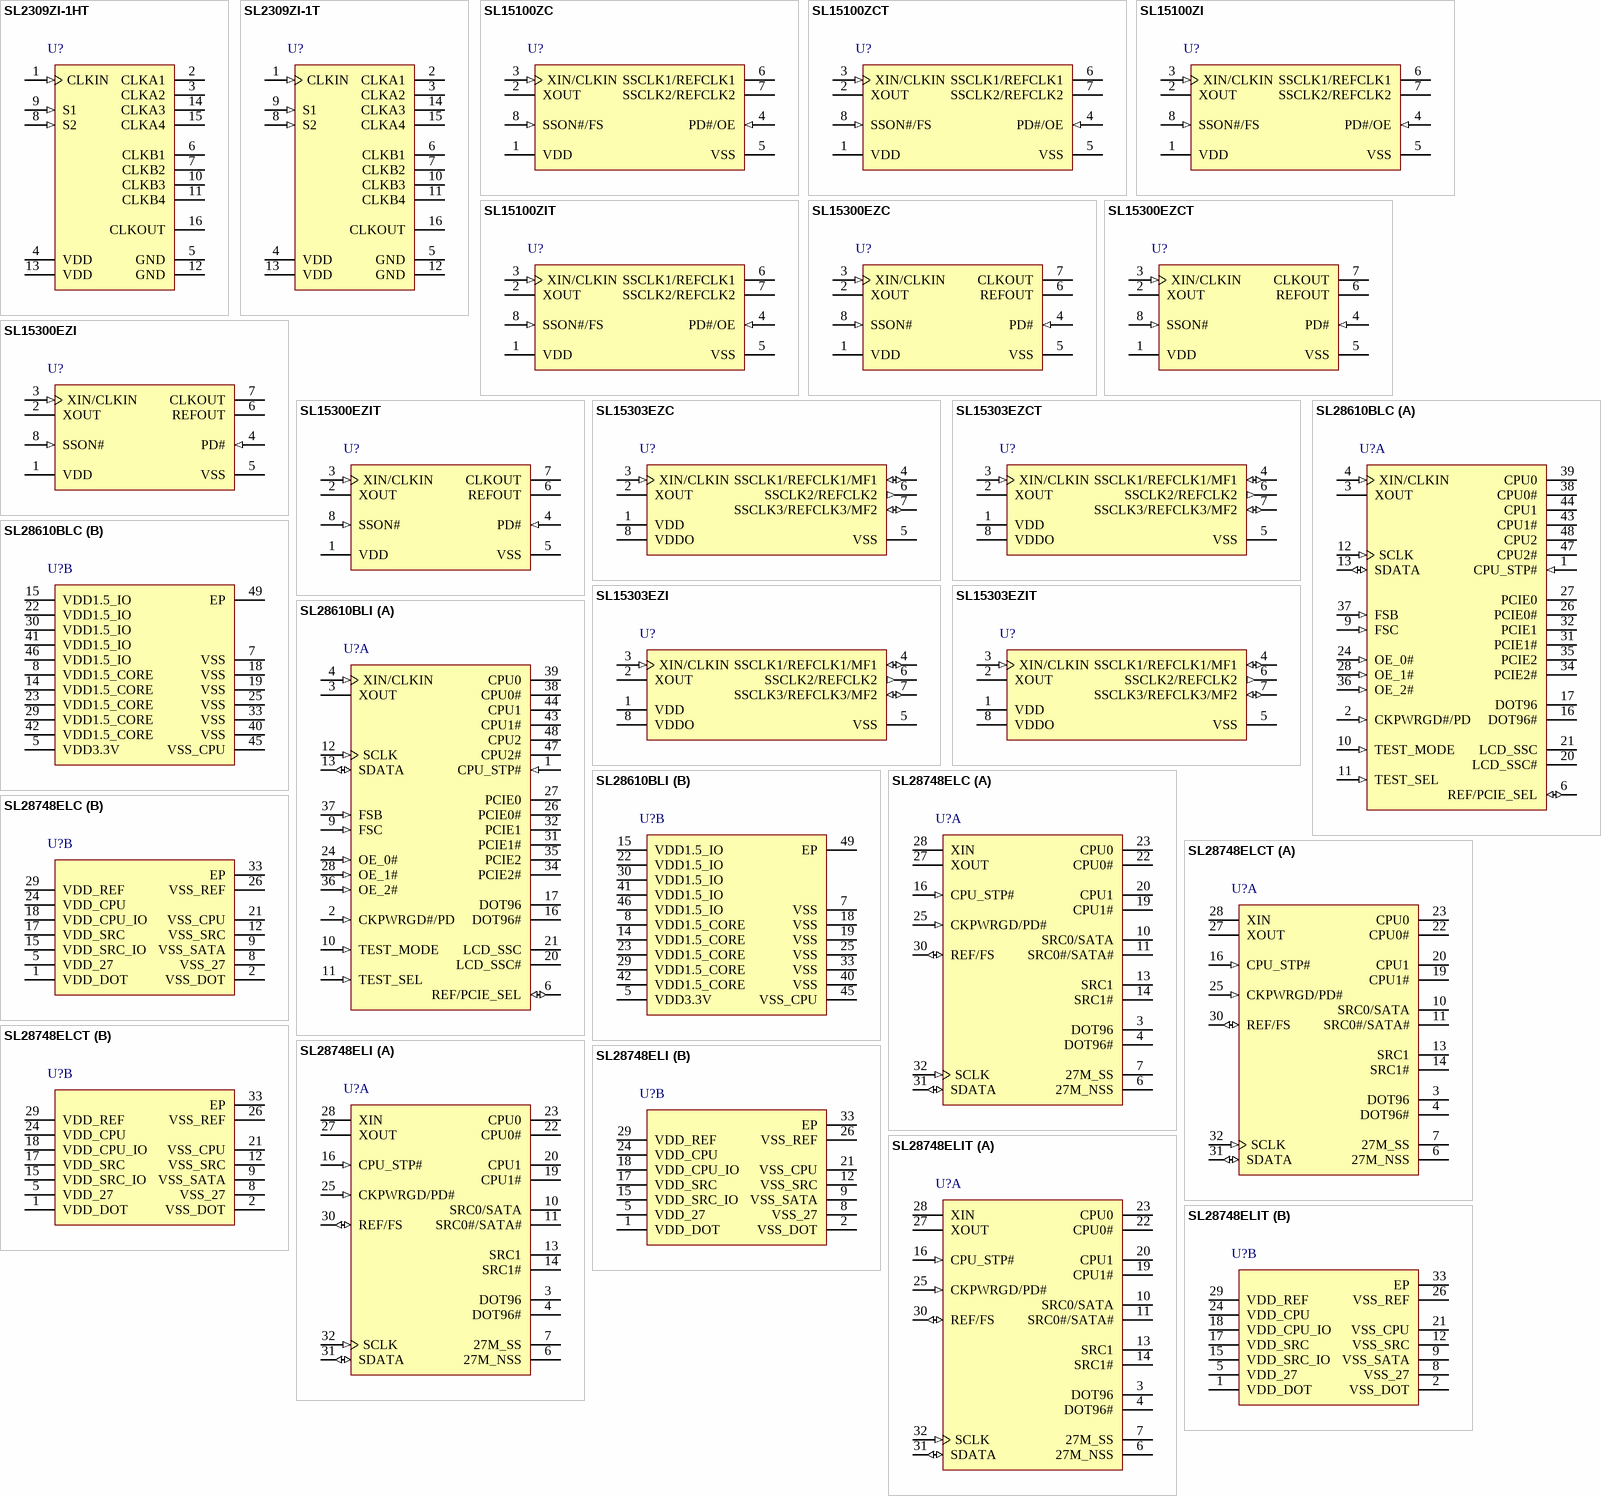
[diagram p40: symbols SL2309ZI-1HT to SL28748ELIT]

## SL2309ZI-1HT
designator U?
Low Jitter and Skew Zero Delay Buffer (ZDB), 10 to 140 MHz, -40 to 85 degC, 16-pin SOP, Tape and Reel; Manufacturer: Silicon Labs; PartNumber: SL2309ZI-1HT; Output Format: LVCMOS; Sub-Family: Clock Buffers; DatasheetVersion: Rev. 1.3; PackageReference: TSSOP-16_A; PackageDescription: 16-Pin Thin Shrink Small-Outline Package, Body 5 x 4.4 mm, Pitch 0.65 mm; Supplier 1: Digi-Key; Supplier Part Number 1: SL2309ZI-1HT-ND; Supplier 2: Mouser; Supplier Part Number 2: 634-SL2309ZI-1HT; Frequency (MHz): 10 to 140; Packing: Tape and Reel; Mounting Technology: Surface Mount; ComponentLink1Description: Manufacturer URL; ComponentLink1URL: http://www.silabs.com/; ComponentLink2Description: Datasheet; ComponentLink2URL: http://www.silabs.com/Support%20Documents/TechnicalDocs/SL2309.pdf; ComponentLink3Description: Package Specification; ComponentLink3URL: http://www.silabs.com/Support%20Documents/TechnicalDocs/SL2309.pdf
footprint SLAB-TSSOP-16_A_N (SOP, 16-Leads, Body 5.1x4.5mm, Pitch 0.65mm, IPC Medium Density)
footprint SLAB-TSSOP-16_A_L (SOP, 16-Leads, Body 5.1x4.5mm, Pitch 0.65mm, IPC High Density)
footprint SLAB-TSSOP-16_A_M (SOP, 16-Leads, Body 5.1x4.5mm, Pitch 0.65mm, IPC Low Density)
pins: 1 CLKIN (in) "Reference Frequency Clock Input. Weak pull-down (250kohm).", 2 CLKA1 (hiz) "Buffered Clock Output, Bank A. Weak pull-down (250kohm).", 3 CLKA2 (hiz) "Buffered Clock Output, Bank A. Weak pull-down (250kohm).", 4 VDD (power), 5 GND (power) "Power Ground.", 6 CLKB1 (hiz) "Buffered Clock Output, Bank B. Weak pull-down (250kohm).", 7 CLKB2 (hiz) "Buffered Clock Output, Bank B. Weak pull-down (250kohm).", 8 S2 (in) "Select Input, select pin S2. Weak pull-up (250kohm).", 9 S1 (in) "Select Input, select pin S1. Weak pull-up (250kohm).", 10 CLKB3 (hiz) "Buffered Clock Output, Bank B. Weak pull-down (250kohm).", 11 CLKB4 (hiz) "Buffered Clock Output, Bank B. Weak pull-down (250kohm).", 12 GND (power) "Power Ground.", 13 VDD (power), 14 CLKA3 (hiz) "Buffered Clock Output, Bank A. Weak pull-down (250kohm).", 15 CLKA4 (hiz) "Buffered Clock Output, Bank A. Weak pull-down (250kohm).", 16 CLKOUT (hiz) "Buffered Clock Output, PLL Internal Feedback Output. Weak pull-down (250kohm)."

## SL2309ZI-1T
designator U?
Low Jitter and Skew Zero Delay Buffer (ZDB), 10 to 140 MHz, -40 to 85 degC, 16-pin SOP, Tape and Reel; Manufacturer: Silicon Labs; PartNumber: SL2309ZI-1T; Output Format: LVCMOS; Sub-Family: Clock Buffers; DatasheetVersion: Rev. 1.3; PackageReference: TSSOP-16_A; PackageDescription: 16-Pin Thin Shrink Small-Outline Package, Body 5 x 4.4 mm, Pitch 0.65 mm; Supplier 1: Digi-Key; Supplier Part Number 1: SL2309ZI-1T-ND; Supplier 2: Mouser; Supplier Part Number 2: 634-SL2309ZI-1T; Frequency (MHz): 10 to 140; Packing: Tape and Reel; Mounting Technology: Surface Mount; ComponentLink1Description: Manufacturer URL; ComponentLink1URL: http://www.silabs.com/; ComponentLink2Description: Datasheet; ComponentLink2URL: http://www.silabs.com/Support%20Documents/TechnicalDocs/SL2309.pdf; ComponentLink3Description: Package Specification; ComponentLink3URL: http://www.silabs.com/Support%20Documents/TechnicalDocs/SL2309.pdf
footprint SLAB-TSSOP-16_A_N (SOP, 16-Leads, Body 5.1x4.5mm, Pitch 0.65mm, IPC Medium Density)
footprint SLAB-TSSOP-16_A_L (SOP, 16-Leads, Body 5.1x4.5mm, Pitch 0.65mm, IPC High Density)
footprint SLAB-TSSOP-16_A_M (SOP, 16-Leads, Body 5.1x4.5mm, Pitch 0.65mm, IPC Low Density)
pins: 1 CLKIN (in) "Reference Frequency Clock Input. Weak pull-down (250kohm).", 2 CLKA1 (hiz) "Buffered Clock Output, Bank A. Weak pull-down (250kohm).", 3 CLKA2 (hiz) "Buffered Clock Output, Bank A. Weak pull-down (250kohm).", 4 VDD (power), 5 GND (power) "Power Ground.", 6 CLKB1 (hiz) "Buffered Clock Output, Bank B. Weak pull-down (250kohm).", 7 CLKB2 (hiz) "Buffered Clock Output, Bank B. Weak pull-down (250kohm).", 8 S2 (in) "Select Input, select pin S2. Weak pull-up (250kohm).", 9 S1 (in) "Select Input, select pin S1. Weak pull-up (250kohm).", 10 CLKB3 (hiz) "Buffered Clock Output, Bank B. Weak pull-down (250kohm).", 11 CLKB4 (hiz) "Buffered Clock Output, Bank B. Weak pull-down (250kohm).", 12 GND (power) "Power Ground.", 13 VDD (power), 14 CLKA3 (hiz) "Buffered Clock Output, Bank A. Weak pull-down (250kohm).", 15 CLKA4 (hiz) "Buffered Clock Output, Bank A. Weak pull-down (250kohm).", 16 CLKOUT (hiz) "Buffered Clock Output, PLL Internal Feedback Output. Weak pull-down (250kohm)."

## SL15100ZC
designator U?
Programmable Spread Spectrum Clock Generator (SSCG), 2.5 / 3.3 V, 3 to 200 MHz Output, 0 to 85 degC, 8-pin SOP, Tube; Manufacturer: Silicon Labs; PartNumber: SL15100ZC; Output Format: LVCMOS; Output Frequency (MHz): 3 to 200; Phase Jitter (RMS): > 1 ps; Reference Inputs: 1; VDD: 2.5 V; 3.3 V; Sub-Family: Clock Generators; DatasheetVersion: Rev. 1.8; PackageReference: TSSOP-8; PackageDescription: 8-Pin Thin Shrink Small-Outline Package, Body 4.4 x 3 mm, Pitch 0.65 mm; Supplier 1: Digi-Key; Supplier Part Number 1: SL15100ZC-ND; Supplier 2: Mouser; Supplier Part Number 2: 634-SL15100ZC; Packing: Tube; Mounting Technology: Surface Mount; ComponentLink1Description: Manufacturer URL; ComponentLink1URL: http://www.silabs.com/; ComponentLink2Description: Datasheet; ComponentLink2URL: http://www.silabs.com/Support%20Documents/TechnicalDocs/SL15100.pdf; ComponentLink3Description: Package Specification; ComponentLink3URL: http://www.silabs.com/Support%20Documents/TechnicalDocs/SL2304NZ.pdf
footprint SLAB-TSSOP-8_N (SOP, 8-Leads, Body 4.5x3.1mm, Pitch 0.65mm, IPC Medium Density)
footprint SLAB-TSSOP-8_L (SOP, 8-Leads, Body 4.5x3.1mm, Pitch 0.65mm, IPC High Density)
footprint SLAB-TSSOP-8_M (SOP, 8-Leads, Body 4.5x3.1mm, Pitch 0.65mm, IPC Low Density)
pins: 1 VDD (power) "Positive power supply.", 2 XOUT "Crystal or ceramic resonator output pin. Leave this pin unconnected (floating) if external clock is used at Pin-3.", 3 XIN/CLKIN (in) "Crystal, ceramic resonator or external clock input pin.", 4 PD#/OE (in) "User Programmable PD# or OE control pin. Power Down (PD#-Active Low): If PD#=0(Low), the device is powered down and both SSCLK and REFOUT outputs are weakly pulled low to VSS. Output Enable (OE-Active High): If OE=1(High), (See Datasheet)", 5 VSS (power) "Power supply ground.", 6 SSCLK1/REFCLK1 (hiz) "This pin can be programmed as SSCLK1 or REFCLK1.", 7 SSCLK2/REFCLK2 (hiz) "This pin can be programmed as SSCLK2 or REFCLK2.", 8 SSON#/FS (in) "Programmable SSON# or Frequency Select (FS) Control pin. If SSCG# function is programmed: Spread-on=0(Low) or Spread-off=1(High). If FS function is programmed: The clock frequencies can be switched between two sets of (See Datasheet)"

## SL15100ZCT
designator U?
Programmable Spread Spectrum Clock Generator (SSCG), 2.5 / 3.3 V, 3 to 200 MHz Output, 0 to 85 degC, 8-pin SOP, Tape and Reel; Manufacturer: Silicon Labs; PartNumber: SL15100ZCT; Output Format: LVCMOS; Output Frequency (MHz): 3 to 200; Phase Jitter (RMS): > 1 ps; Reference Inputs: 1; VDD: 2.5 V; 3.3 V; Sub-Family: Clock Generators; DatasheetVersion: Rev. 1.8; PackageReference: TSSOP-8; PackageDescription: 8-Pin Thin Shrink Small-Outline Package, Body 4.4 x 3 mm, Pitch 0.65 mm; Supplier 1: Digi-Key; Supplier Part Number 1: SL15100ZCT-ND; Supplier 2: Mouser; Supplier Part Number 2: 634-SL15100ZCT; Packing: Tape and Reel; Mounting Technology: Surface Mount; ComponentLink1Description: Manufacturer URL; ComponentLink1URL: http://www.silabs.com/; ComponentLink2Description: Datasheet; ComponentLink2URL: http://www.silabs.com/Support%20Documents/TechnicalDocs/SL15100.pdf; ComponentLink3Description: Package Specification; ComponentLink3URL: http://www.silabs.com/Support%20Documents/TechnicalDocs/SL2304NZ.pdf
footprint SLAB-TSSOP-8_N (SOP, 8-Leads, Body 4.5x3.1mm, Pitch 0.65mm, IPC Medium Density)
footprint SLAB-TSSOP-8_L (SOP, 8-Leads, Body 4.5x3.1mm, Pitch 0.65mm, IPC High Density)
footprint SLAB-TSSOP-8_M (SOP, 8-Leads, Body 4.5x3.1mm, Pitch 0.65mm, IPC Low Density)
pins: 1 VDD (power) "Positive power supply.", 2 XOUT "Crystal or ceramic resonator output pin. Leave this pin unconnected (floating) if external clock is used at Pin-3.", 3 XIN/CLKIN (in) "Crystal, ceramic resonator or external clock input pin.", 4 PD#/OE (in) "User Programmable PD# or OE control pin. Power Down (PD#-Active Low): If PD#=0(Low), the device is powered down and both SSCLK and REFOUT outputs are weakly pulled low to VSS. Output Enable (OE-Active High): If OE=1(High), (See Datasheet)", 5 VSS (power) "Power supply ground.", 6 SSCLK1/REFCLK1 (hiz) "This pin can be programmed as SSCLK1 or REFCLK1.", 7 SSCLK2/REFCLK2 (hiz) "This pin can be programmed as SSCLK2 or REFCLK2.", 8 SSON#/FS (in) "Programmable SSON# or Frequency Select (FS) Control pin. If SSCG# function is programmed: Spread-on=0(Low) or Spread-off=1(High). If FS function is programmed: The clock frequencies can be switched between two sets of (See Datasheet)"